# Altium schematic symbol library devices.SchLib: 3 symbols
Pins are listed as number, name and electrical type; pins without a type are passive.

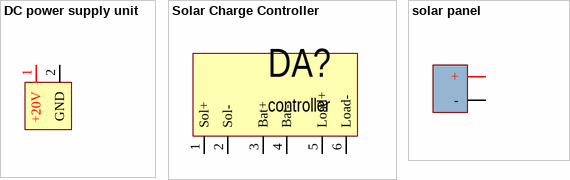
[diagram p0: symbols DC power supply unit to solar panel]

## DC power supply unit
designator DA?, comment AC-DC
footprint Dummy 2-pin
pins: 1 +20V, 2 GND

## Solar Charge Controller
designator DA?, comment controller
footprint Solar Charger Controller (dummy of controller pads)
pins: 1 Sol+, 2 Sol-, 3 Bat+, 4 Bat-, 5 Load+, 6 Load-

## solar panel
designator DA?
footprint Dummy 2-pin
pins: 1 +, 2 -